# Altium schematic symbol library solder-jumper-open.Schlib: 1 symbol
Pins are listed as number, name and electrical type; pins without a type are passive.

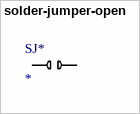
[diagram p0: symbol solder-jumper-open]

## solder-jumper-open
designator SJ*  (no BOM)
footprint solder-jumper-open
pins: 1, 2